# Altium integrated library PMIC - Voltage Regulators - DC DC Switching Regulators.IntLib: 2 symbols
Pins are listed as number, name and electrical type; pins without a type are passive.

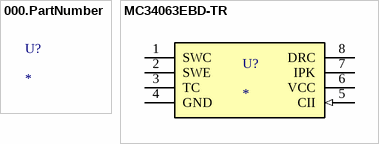
[diagram p0: symbols 000.PartNumber to MC34063EBD-TR]

## 000.PartNumber
designator U?
Digikey Description; Manufacturer: *; Series: *; Package: *; Function: *; Output Configuration: *; Topology: *; Output Type: *; Number of Outputs: *; Voltage - Input (Min): *; Voltage - Input (Max): *; Voltage - Output (Min/Fixed): *; Voltage - Output (Max): *; Current - Output: *; Frequency - Switching: *; Synchronous Rectifier: *; Operating Temperature: *; Mounting Type: *; Package / Case: *; Supplier Device Package: *; Base Product Number: *; Ozdisan Link: *; Digikey Link: *; Farnell TR Link: *; Mouser Link: *

## MC34063EBD-TR
designator U?
IC REG BUCK BST ADJ 1.5A 8SO; Manufacturer: STMicroelectronics; Function: Step-Up, Step-Down; Output Configuration: Positive or Negative; Topology: Buck, Boost; Output Type: Adjustable; Number of Outputs: 1; Voltage - Input (Min): 3 V; Voltage - Input (Max): 40 V; Voltage - Output (Min/Fixed): 1.25 V; Voltage - Output (Max): 38 V; Current - Output: 1.5 A (Switch); Frequency - Switching: 33 kHz; Synchronous Rectifier: No; Base Product Number: MC34063; Series: -; Package: Tape & Reel (TR); Operating Temperature: -40°C ~ 125°C (TA); Mounting Type: Surface Mount; Package / Case: 8-SOIC (0.154", 3.90mm Width); Supplier Device Package: 8-SO; Ozdisan Link: https://ozdisan.com/entegre-devreler-ics/guc-entegreleri/dc-dc-voltaj-regulatorleri/MC34063EBD-TR; Digikey Link: https://www.digikey.com/en/products/detail/stmicroelectronics/MC34063EBD-TR/1038911?s=N4IgTCBcDaILIGEDMAWADANiQUQEIBEBaAFQCUQBdAXyA; Farnell TR Link: https://tr.farnell.com/stmicroelectronics/mc34063ebd-tr/dc-dc-conv-buck-boost-inv-125deg/dp/3367118?st=mc34063ebd-tr; Mouser Link: https://www.mouser.com.tr/ProductDetail/STMicroelectronics/MC34063EBD-TR?qs=%2Fha2pyFaduiFgZQjQ8MLqMsqk0nqKfVOwD7gPJB7dRPq%252B%2F238XtFXg%3D%3D
footprint STM_SO-8
pins: 1 SWC, 2 SWE, 3 TC, 4 GND (power), 5 CII (in), 6 VCC (power), 7 IPK, 8 DRC